# EAGLE library part PIC16F1503-I/ST (library Microcontroller)
IC MCU 8BIT 3.5KB FLASH 14TSSOP Manufacturer's datasheet <http://ww1.microchip.com/downloads/en/DeviceDoc/40001607D.pdf>
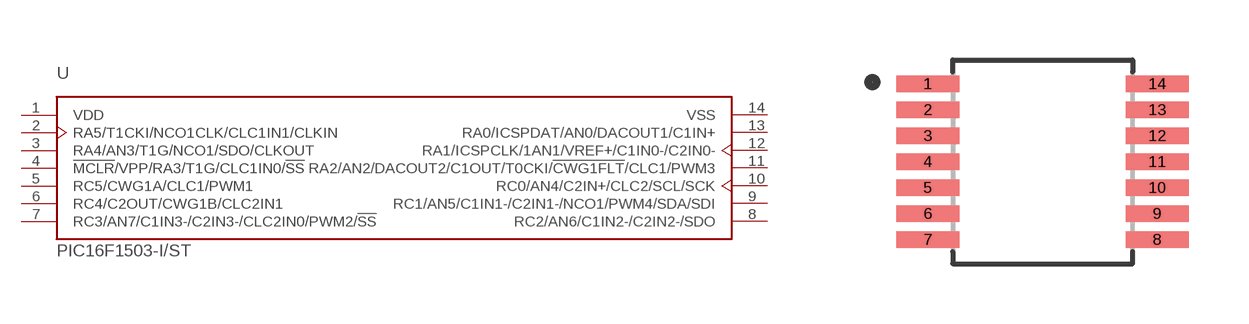
[diagram p5: symbol with the pads of TSSOP-14; footprint TSSOP-14]

Designator prefix U

## PIC16F1503-I/ST (CREATED_BY: PCBLayout.com; DIGIKEY_PART_NUMBER: PIC16F1503-I/ST-ND; MANUFACTURER: Microchip Technology; MPN: PIC16F1503-I/ST; PACKAGE: TSSOP-14)  [TSSOP-14]
1  VDD  pwr
2  RA5/T1CKI/NCO1CLK/CLC1IN1/CLKIN
3  RA4/AN3/T1G/NCO1/SDO/CLKOUT
4  !MCLR!/VPP/RA3/T1G/CLC1IN0/!SS!
5  RC5/CWG1A/CLC1/PWM1
6  RC4/C2OUT/CWG1B/CLC2IN1
7  RC3/AN7/C1IN3-/C2IN3-/CLC2IN0/PWM2/!SS!
8  RC2/AN6/C1IN2-/C2IN2-/SDO
9  RC1/AN5/C1IN1-/C2IN1-/NCO1/PWM4/SDA/SDI
10  RC0/AN4/C2IN+/CLC2/SCL/SCK
11  RA2/AN2/DACOUT2/C1OUT/T0CKI/!CWG1FLT!/CLC1/PWM3
12  RA1/ICSPCLK/1AN1/VREF+/C1IN0-/C2IN0-
13  RA0/ICSPDAT/AN0/DACOUT1/C1IN+
14  VSS  pwr

## Footprint TSSOP-14 (pad centres in mm)
smd 1.57 x 0.41: 1 -2.87,1.95; 2 -2.87,1.3; 3 -2.87,0.65; 4 -2.87,0; 5 -2.87,-0.65; 6 -2.87,-1.3; 7 -2.87,-1.95; 8 2.87,-1.95; 9 2.87,-1.3; 10 2.87,-0.65; 11 2.87,0; 12 2.87,0.65; 13 2.87,1.3; 14 2.87,1.95